# EAGLE library part 8-PIN (library footprints)
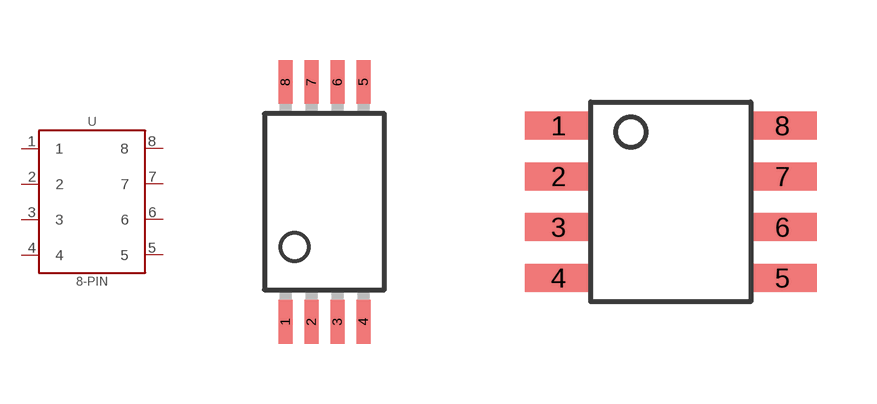
[diagram p1: symbol with the pads of TSSOP-8; footprints TSSOP-8, SOIC-8N]

Designator prefix -

## 8-PIN_TSSOP  [TSSOP-8]
1  1
2  2
3  3
4  4
5  5
6  6
7  7
8  8

## 8-PIN_SOIC-N  [SOIC-8N]
Pads as for TSSOP-8

## 8-PIN_SOIC-W  [SOIC-8W]
Pads as for TSSOP-8

## Footprint TSSOP-8 (pad centres in mm)
smd 0.35 x 1.1: 1 -0.975,-3; 2 -0.325,-3; 3 0.325,-3; 4 0.975,-3; 5 0.975,3; 6 0.325,3; 7 -0.325,3; 8 -0.975,3

## Footprint SOIC-8N (pad centres in mm)
3.9mm Body
smd 1.7 x 0.7: 1 -2.8,1.905; 2 -2.8,0.635; 3 -2.8,-0.635; 4 -2.8,-1.905; 5 2.8,-1.905; 6 2.8,-0.635; 7 2.8,0.635; 8 2.8,1.905

## Footprint SOIC-8W (pad centres in mm)
5.6mm Body
smd 1.9 x 0.7: 1 -3.7,1.905; 2 -3.7,0.635; 3 -3.7,-0.635; 4 -3.7,-1.905; 5 3.7,-1.905; 6 3.7,-0.635; 7 3.7,0.635; 8 3.7,1.905